# EAGLE library part NFET_DUAL (library marionette)
Dual NFETs DMN63D8LDW, Mfg: Diodes Inc., Pkg.: SOT363, Vds = 30V, Vgs = 1.5V (logic level), Id continuous: 220mA, Digikey Part No.: DMN63D8LDW-7CT-ND
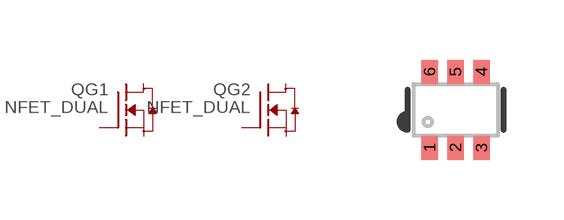
[diagram p13: symbol with the pads of SOT-363; footprint SOT-363]

Designator prefix Q; gates G1=NFET G2=NFET

## NFET_DUAL_DMN63D8LDW  [SOT-363]
1  G2:S  pas
2  G2:G  pas
3  G1:D  pas
4  G1:S  pas
5  G1:G  pas
6  G2:D  pas

## Footprint SOT-363 (pad centres in mm)
SOT-363 package from ap02001.pdf layout guide
smd 0.42 x 0.6: 1 -0.65,-0.95; 2 0,-0.95; 3 0.65,-0.95; 4 0.65,0.95; 5 0,0.95; 6 -0.65,0.95